# Altium schematic symbol library Passives.SchLib: 27 symbols
Pins are listed as number, name and electrical type; pins without a type are passive.

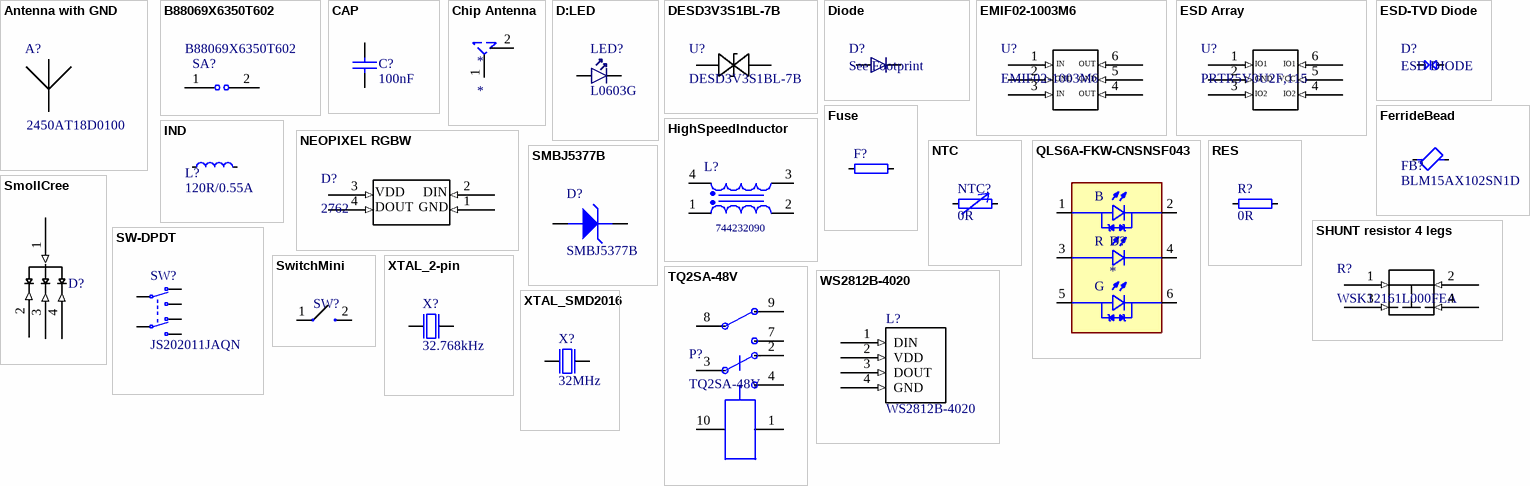
[diagram p0: symbols Antenna with GND to XTAL_SMD2016]

## Antenna with GND
designator A?, comment 2450AT18D0100
2.45 GHz chip antenna; Part Number: Johanson 2450AT18D0100_STD-L; Manufacturer: Johanson Technology; Part number IPS: N.A.; Artikkelnr Noca: 53059035; Manufacturer Part Number: 2450AT18D0100; ComponentLink1URL: *; ComponentLink1Description: Datasheet; ComponentLink2URL: *; ComponentLink2Description: Supplier link; HelpURL: http://www.johansontechnology.com/datasheets/antennas/2450AT18D0100.pdf; Footprint Doc: 2450AT18D0100; LatestRevisionDate: 2016-06-02; Pin Count: 4; Publisher: Nordic Semiconductor; Published: 2016-01-12; Value: 2450AT18D0100; Note: *; Supplier 1: Digi-Key; Supplier Part Number 1: 2450AT18D0100E; Supplier 2: Mouser; Supplier Part Number 2: 609-2450AT18D0100E
footprint 2450AT18D0100_STD-L
footprint 2450AT18D0100_STD-L - Thin space (2.45GHz antenna for thin spaces)
footprint AMCA31-2R450G-S1F-T3 (Chip antenna 2.45Ghz)
pins: 1, 2 GND (power) hidden to GND

## B88069X6350T602
designator SA?
Surge arrester 2-electrode arrester   Series/Type: A80-A75XSMD   Ordering code: B88069X6350T602, EPCOS; RevisionEditor: cousin; RevisionNr: 0; Part Number: B88069X6350T602; Component Type: Standard; Footprint: B88069X6350T602; ComponentLink2Description: Datasheet; ComponentLink2URL: http://tssx1/Datasheet/B88069X6350T602.pdf; RevisionDate: 09.04.2018 18:36:59; Approved: 0; Supplier 1: Mouser; Supplier Part Number 1: 871-B88069X6350T602
footprint B88069X6350T602
pins: 1, 2

## CAP
designator C?, comment 100nF
Capacitor; Value: 100pF; Published: 8-Jun-2000; Revision: July-2002: Re-released for DXP Platform.; Publisher: Altium Limited
footprint C0603
footprint C0201
footprint C0402
footprint C0805
footprint C2220
footprint CAPSMT_6.3mmx7.7mm (EEE-1VA101XP)
footprint C1206
footprint C1210
pins: 1, 2

## Chip Antenna
designator *
footprint M620720 (LORA Chip antenna)
pins: 1 0, 2 0

## D:LED
designator LED?, comment L0603G
LED, Green, 0603, 570nm, Vf=1.7V, 2.24..5.6mcd, - 40 to +100°C; Part Number: LG L29K Smartled Green; Manufacturer: Osram; Manufacturer Part Number: LG L29K-G2J1-24-Z; Part number IPS: N.A.; Note: 2.24..5.6 mcd, Vfmin=1.7V; Artikkelnr Noca: 13019147; Footprint Doc: 0603; LatestRevisionDate: 2017-08-21; Pin Count: 2; Publisher: Nordic Semiconductor; Published: 2014-10-28; Value: L0603G; ComponentLink1URL: *; ComponentLink1Description: Datasheet; ComponentLink2URL: *; ComponentLink2Description: Supplier link; HelpURL: http://www.osram-os.com/Graphics/XPic2/00077107_0.pdf; Supplier 1: Digi-Key; Supplier Part Number 1: 475-2709-1-ND; Supplier 2: Mouser; Supplier Part Number 2: 720-LGL29KG2J124Z
footprint LED_0603
footprint NICHIA NUBM08 (Laser Diode)
pins: 1 C, 2 A

## DESD3V3S1BL-7B
designator U?
TVS 3.3V; Mfr_Name: Diodes Inc
footprint X1-DFN1006-2_RH_DIO
pins: 1, 2

## Diode
designator D?, comment See Footprint
Switch-mode Schottky / Power Rectifier / 250 V, 40 A
footprint D2PAK TO265-2
footprint SOD-123 (Diode)
pins: 1 A, 2 C

## EMIF02-1003M6
designator U?
EMI filter and ESD protection in Micro QFN package
footprint EMIF02-1003M6 (EMI filter and ESD protection)
pins: 1 (in), 2 (in), 3 (in), 4 (in), 5 (in), 6 (in)
text: IN; OUT; GND

## ESD Array
designator U?, comment PRTR5V0U2F,115
ESD diode
footprint sot886 (PRTR5V0U2F,115)
pins: 1 (in), 2 (in), 3 (in), 4 (in), 5 (in), 6 (in)
text: IO1; GND; VCC; IO2

## ESD-TVD Diode
designator D?, comment ESD DIODE
824032815 5V, 824032813 3V3
footprint WE-TVS_DFN1610-2L (TVS Diode, package DFN1610-2L)
pins: 1, 2

## FerrideBead
designator FB?, comment BLM15AX102SN1D
Ferrite Bead, 1000 Ohm @ 100MHz; Part Number: FB0402-120R@100M-500mA; Manufacturer: Murata; Manufacturer Part Number: BLM15AG121SN1D; Part number IPS: N.A.; Value: 120R/0.55A; Note: Chip EMIFIL Inductor Type Chip Ferrite Bead; Artikkelnr Noca: 33029317; Footprint Doc: 0402; LatestRevisionDate: 2014-01-10; Pin Count: 2; Publisher: Nordic Semiconductor; Published: 2011-11-14; ComponentLink1URL: *; ComponentLink1Description: Datasheet; ComponentLink2URL: *; ComponentLink2Description: Supplier link; HelpURL: http://search.murata.co.jp/Ceramy/image/img/PDF/ENG/L0110S0100BLM15A_SN.pdf
footprint IND0402
footprint IND0603
footprint IND0805R (Inductor 0805 reflow soldering)
pins: 1, 2

## Fuse
designator F?, comment MF-NSMF075-2  (value not drawn)
Polymeric PTC Resettable Fuse 6V 750mA Ih Surface Mount 1206 (3216 Metric), Concave; Part Number: R0201-0R; Part number IPS: 00000003245; Value: 0R; Note: Chip Res 5%; Artikkelnr Noca: N.A.; Manufacturer: *; Manufacturer Part Number: *; ComponentLink1URL: *; ComponentLink1Description: Datasheet; ComponentLink2URL: *; ComponentLink2Description: Supplier link; HelpURL: *; Footprint Doc: 0201; LatestRevisionDate: 2017-11-09; Pin Count: 2; Publisher: Nordic Semiconductor; Published: 2014-11-13; Supplier 1: Digi-Key; Supplier Part Number 1: MF-NSMF075-2CT-ND
footprint F1206R
footprint 0154010.DR (10A Fuse)
pins: 1, 2

## HighSpeedInductor
designator L?, comment 744232090
WE-CNSW SMT Common Mode Line Filter, size 1206, 90Ohm, 370mA, 50V; DC Resistance max.: 0.3Ohm; Impedance Test Condition: 100MHz; Insulation Test Voltage: 125V; Winding Style: bifiliar; ComponentLink1Description: Manufacturer; ComponentLink1URL: http://www.we-online.de; ComponentLink2Description: Datasheet; ComponentLink2URL: https://katalog.we-online.com/pbs/datasheet/744232090.pdf; Part Number: 744232090; Published Date: March 2019; Publisher: Wurth Elektronik; Rated Current: 370mA; Size: 1206; Impedance: 90Ohm; Operating Temperature: -40 to +125degC; Rated Voltage: 50V; Mounting Technology: SMT; Packaging: Tape and Reel
footprint WE-CNSW_1206
footprint WE-CNSW_0603 (SMT Common Mode Line Filter, 4-leads, body 1.6x0.85mm)
footprint WE-CNSW_0805 (SMT Common Mode Line Filter, 4-leads, body 2x1.2mm)
footprint WE-CNSW_1812 (SMT Common Mode Line Filter, 4-leads, body 4.5x3.2mm)
pins: 1, 2, 3, 4

## IND
designator L?, comment 120R/0.55A
Inductor; Part Number: FB0402-120R@100M-500mA; Manufacturer: Murata; Manufacturer Part Number: BLM15AG121SN1D; Part number IPS: N.A.; Note: Chip EMIFIL Inductor Type Chip Ferrite Bead; Artikkelnr Noca: 33029317; Footprint Doc: 0402; LatestRevisionDate: 2014-01-10; Pin Count: 2; Publisher: Nordic Semiconductor; Published: 2011-11-14; Value: 120R/0.55A; ComponentLink1URL: *; ComponentLink1Description: Datasheet; ComponentLink2URL: *; ComponentLink2Description: Supplier link; HelpURL: http://search.murata.co.jp/Ceramy/image/img/PDF/ENG/L0110S0100BLM15A_SN.pdf
footprint IND0402
footprint IND0603
footprint IND0805 (Inductor 0805 reflow soldering)
footprint IND2016
footprint CDRH105RNP-221NC (Footprint not found)
footprint 33 uH inductor (L = 33 µH  DCR = 144 mO  IDC = 3.2 A)
footprint XAL1010-822MEB (Inductor)
footprint IND0201
footprint 784774047 (4.7 µH Inductor 3A)
pins: 1, 2

## NEOPIXEL RGBW
designator D?, comment 2762
SK6812 RGB LED 1528-2387-ND; ComponentLink1Description: DigiKey; ComponentLink1URL: https://www.digikey.no/product-detail/en/adafruit-industries-llc/2762/1528-2387-ND/6134718; Supplier 1: Digi-Key; Supplier Part Number 1: 1528-2387-ND
footprint SK6812RGBW
footprint WS2812B-2020 (MINI led rgb digital)
pins: 1 (in), 2 (in), 3 (in), 4 (in)
text: VDD; DIN; DOUT; GND

## NTC
designator NTC?, comment 0R
NTC thermistor; Part Number: R0201-0R; Part number IPS: 00000003245; Note: Chip Res 5%; Artikkelnr Noca: N.A.; Manufacturer: *; Manufacturer Part Number: *; ComponentLink1URL: *; ComponentLink1Description: Datasheet; ComponentLink2URL: *; ComponentLink2Description: Supplier link; HelpURL: *; Footprint Doc: 0201; LatestRevisionDate: 2017-11-09; Pin Count: 2; Publisher: Nordic Semiconductor; Published: 2014-11-13; Value: 0R; Supplier 1: *; Supplier Part Number 1: *; Supplier 2: *; Supplier Part Number 2: *
footprint RES0603R
footprint RES1206R
footprint RES0402
footprint R0201
pins: 1, 2

## QLS6A-FKW-CNSNSF043
designator D?
Red, Green, Blue (RGB) 622nm Red, 530nm Green, 470nm Blue LED Indication - Discrete 2.1V Red, 3V Green, 3.1V Blue 6-SMD, J-Lead; MP: QLS6A-FKW-CNSNSF043; Package: None; Price: None; Value: *; Availability: Unavailable
footprint LED_QLS6A-FKW-CNSNSF043 (Footprint not found)
pins: 1 BLUE_ANODE, 2 BLUE_CATHODE, 3 RED_ANODE, 4 RED_CATHODE, 5 GREEN_ANODE, 6 GREEN_CATHODE
text: B; R; G

## RES
designator R?, comment 0R
Resistor, Generic; Part Number: R0201-0R; Part number IPS: 00000003245; Note: Chip Res 5%; Artikkelnr Noca: N.A.; Manufacturer: *; Manufacturer Part Number: *; ComponentLink1URL: *; ComponentLink1Description: Datasheet; ComponentLink2URL: *; ComponentLink2Description: Supplier link; HelpURL: *; Footprint Doc: 0201; LatestRevisionDate: 2017-11-09; Pin Count: 2; Publisher: Nordic Semiconductor; Published: 2014-11-13; Value: 0R; Supplier 1: *; Supplier Part Number 1: *; Supplier 2: *; Supplier Part Number 2: *
footprint RES0603R
footprint RES1206R
footprint RES0402
footprint R0201
footprint RES0612 (1206 Wide (inverted))
footprint RES0805R (resistor 0805 reflow soldering)
pins: 1, 2

## SHUNT resistor 4 legs
designator R?, comment WSK12161L000FEA
SHUNT resitor 1% WSK12161L000FEA
footprint WSK12161L000FEA (Current shunt resistor)
pins: 1 (in), 2 (in), 3 (in), 4 (in)

## SMBJ5377B
designator D?
91V Zener-Diode 5W ZENER SMB, DO-214AA, Micro Commercial Components; RevisionEditor: cousin; RevisionNr: 0; Part Number: SMBJ5377B; Component Type: Standard; Footprint: DO-214AA_MCCSEMI; ComponentLink2Description: Datasheet; ComponentLink2URL: http://tssx1/Datasheet/SMBJ5377B.pdf; RevisionDate: 08.05.2018 15:21:49; Approved: 0; LastModifier: cousin; Supplier Part Number 1: 833-SMBJ5377B-TP; Supplier 1: Mouser; Supplier 2: Digi-Key; Supplier Part Number 2: SMBJ5377B-TPMSCT-ND; Voltage: 91V
footprint DO-214AA_MCCSEMI
pins: A, K

## SmollCree
designator D?, comment CLMVC-FKA-CLBDGL7LBB79353  (value not drawn)
1. common anode 2. blue 3. green 4. red; ComponentLink1Description: Mouser; ComponentLink1URL: https://no.mouser.com/ProductDetail/Cree-Inc/CLMVC-FKA-CLBDGL7LBB79353?qs=fSnNYG2PaKLnACIKsEWrKA%3D%3D; Supplier 1: Mouser; Supplier Part Number 1: 941-CLMVCFKACLBDGL7L
footprint SmollLedCree (CLMVC-FKA)
pins: 1 (in) "Vp+", 2 Blue (in), 3 (in) "Green", 4 (in) "Red"

## SW-DPDT
designator SW?, comment JS202011JAQN
Switch-Slide-RA-J-Lead-DPDT-8.5x3.5mm_C&K; Part Number: CAS-220TA; Manufacturer: Copal Electronics Inc; Part number IPS: N.A.; Value: CAS-220TA; Artikkelnr Noca: 50019042; Manufacturer Part Number: CAS-220TA; Footprint Doc: CAS-220TA; LatestRevisionDate: 2010-02-18; Pin Count: 6; Publisher: Nordic Semiconductor; Published: 2010-02-18; Note: *; ComponentLink1URL: *; ComponentLink1Description: Datasheet; ComponentLink2URL: *; ComponentLink2Description: Supplier link; HelpURL: http://media.digikey.com/pdf/Data%20Sheets/COPAL%20Electronics%20PDFs/CAS%20SMD%20Slide%20Switch.pdf; Supplier 1: Digi-Key; Supplier Part Number 1: CAS220JTR-ND; Supplier 2: *; Supplier Part Number 2: *
footprint Switch-Slide-RA-J-Lead-DPDT-8.5x3.5mm
pins: 1 N.O-1, 2 COM-1, 3 N.C-1, 4 N.O-2, 5 COM-2, 6 N.C-2

## SwitchMini
designator SW?, comment EVP-AA002K  (value not drawn)
EVPAA002K = 1.0 N, EVPAAU02Q = 7.0 N; Supplier 1: Digi-Key; Supplier Part Number 1: P13347SCT-ND
footprint MiniSwitch
pins: 1 18 (power), 2 18 (power)

## TQ2SA-48V
designator P?
TQ2SA-48V / Dual Relay / Panasonic
footprint Relay48vx2 (Panasonic)
pins: 1, 2, 3, 4, 7, 8, 9, 10

## WS2812B-4020
designator L?
WS2812B based adressable led 90 deg 0402 mini; ComponentLink2URL: https://datasheet.lcsc.com/lcsc/2012110135_Worldsemi-WS2812B-4020_C965557.pdf; ComponentLink2Description: Datasheet; MPN: WS2812B-4020; ComponentLink1Description: China; ComponentLink1URL: https://www.youtube.com/watch?v=W8x4m-qpmJ8
footprint WS2812B-4020-Footprint-1
pins: 1 DIN (in), 2 VDD (in), 3 DOUT (in), 4 GND (in)

## XTAL_2-pin
designator X?, comment 32.768kHz
XTAL SMD 32.768kHz, 9pF, ±20ppm; Part Number: XTAL_SMD3215_32.768kHz_9pF_NDK; Manufacturer: NDK; Manufacturer Part Number: NX3215SA-32.768K-STD-MUA-9; Part number IPS: N.A.; Artikkelnr Noca: 22010049; LatestRevisionDate: 2017-10-23; Pin Count: 2; Publisher: Nordic Semiconductor; Published: 2017-10-23; Value: 32.768kHz; Note: XTAL SMD 32.768kHz; Footprint Doc: XTAL_3215; ComponentLink1URL: *; ComponentLink1Description: Datasheet; ComponentLink2URL: *; ComponentLink2Description: Supplier link; HelpURL: *; Supplier 1: Digi-Key; Supplier Part Number 1: 535-11937-6-ND
footprint XTAL_1610
footprint XTAL_2012
footprint XTAL_3215
pins: 1 inp, 2 out

## XTAL_SMD2016
designator X?, comment 32MHz
XTAL SMD 2016, 32MHz, Cl=8pF, Total Tol: ±40ppm; Part Number: XTAL_SMD2016_32MHz_8pF_General; LatestRevisionDate: 2016-08-19; Pin Count: 4; Publisher: Nordic Semiconductor; Published: 2016-08-19; Value: 32MHz; Footprint Doc: XTAL_2016; Manufacturer: *; Manufacturer Part Number: *
footprint XTAL_2016
footprint XTAL_5234
pins: 1 inp, 2 GND hidden to GND, 3 out, 4 GND hidden to GND